# Altium footprint library Molex.PcbLib: 7 footprints
Each footprint in its own frame and in the unit in brackets; x right, y up, seen from the top. Pads: shape width x height; smd on the part's side, far side on the other; paste and mask are expansions set on the pad; w line width, h text height; cw(c..) or ccw(c..) is an arc to the next point about the centre after c.
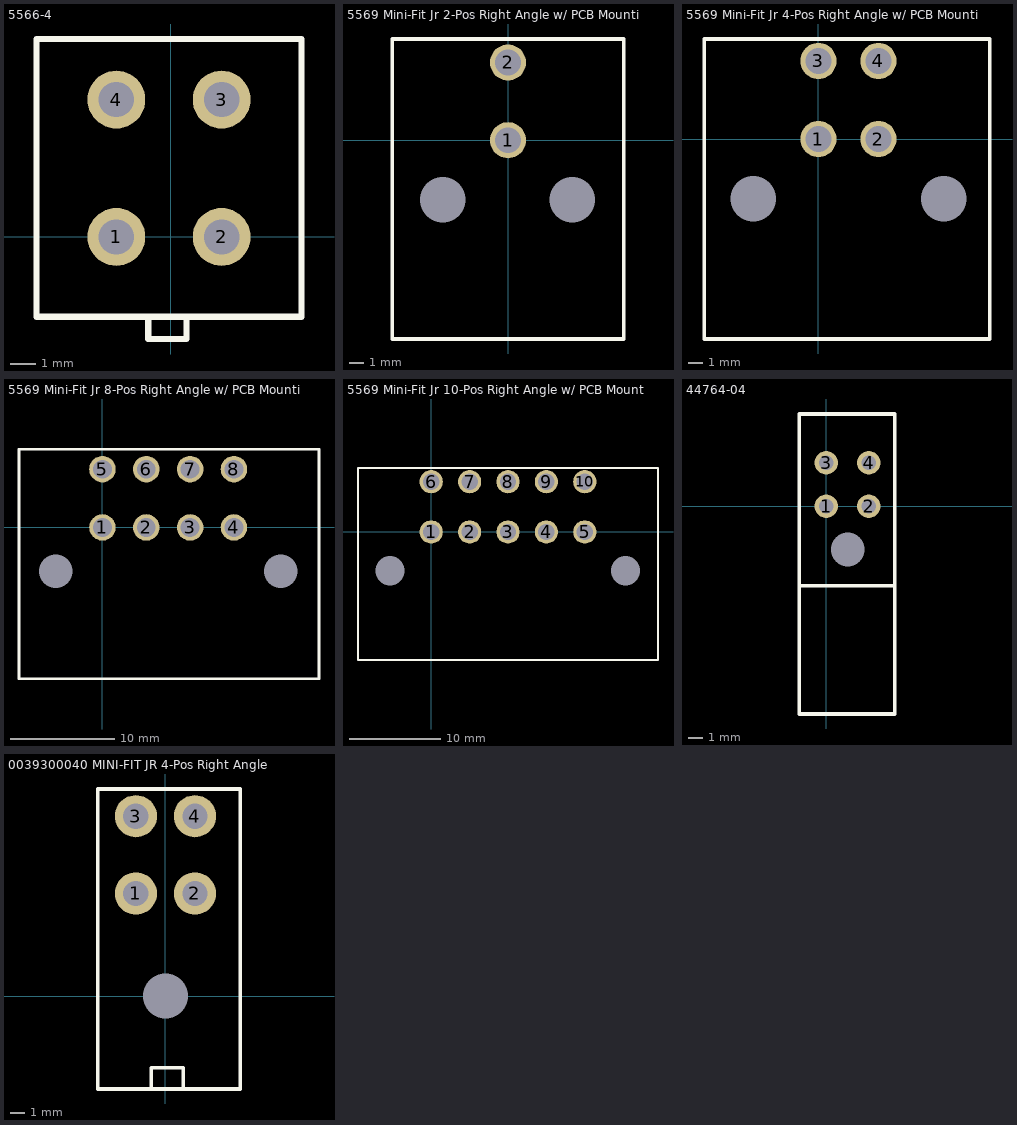
[diagram p0: the footprints below, top view; thin cyan lines are the x and y axes]

## 5566-4 [mm]
pads (4):
  round 2.3 hole 1.4: 1(-2.159,0) 2(2.032,0) 3(2.032,5.461) 4(-2.159,5.461)
Top Overlay:
  lines w0.254: -0.889,-3.175 -0.889,-4.064 0.635,-4.064 0.635,-3.302 ; -5.334,-3.175 -5.334,7.874 5.207,7.874 5.207,-3.175 -5.334,-3.175
3D body: height 12.8, standoff -3.5, extent -5.334,-3.253 5.066,7.747

## 5569 Mini-Fit Jr 2-Pos Right Angle w/ PCB Mounting Flange [mm] "4.20mm (.165\") Pitch Mini-Fit Jr.™ Header, Dual Row, Right Angle, with PCB Mounting Flange, 2 Circuits, PA Polyamide Nylon 6/6 94V-0, Tin (Sn) Plating"
pads (4):
  round 2.54 hole 1.8 unplated: 1(0,0) 2(0,5.461)
  round 0 hole 3.2 unplated: ""(-4.572,-4.191) ""(4.5,-4.2)
Top Overlay:
  lines w0.254: -8.128,-13.97 -8.128,7.112 8.128,7.112 8.128,-13.97 -8.128,-13.97
3D body: height 11.4, standoff -3.5, extent -7.675,-13.95 7.725,5.95

## 5569 Mini-Fit Jr 4-Pos Right Angle w/ PCB Mounting Flange [mm] "4.20mm (.165\") Pitch Mini-Fit Jr.™ Header, Dual Row, Right Angle, with PCB Mounting Flange, 4 Circuits, PA Polyamide Nylon 6/6 94V-0, Tin (Sn) Plating"
pads (6):
  round 2.54 hole 1.8 unplated: 1(0,0) 2(4.2,0) 3(0,5.461) 4(4.2,5.461)
  round 0 hole 3.2 unplated: ""(-4.572,-4.191) ""(8.763,-4.191)
Top Overlay:
  lines w0.254: -8,-14 12,-14 12,7 -8,7 -8,-14
3D body: height 11.4, standoff -3.5, extent -7.768,-13.931 11.832,5.969

## 5569 Mini-Fit Jr 8-Pos Right Angle w/ PCB Mounting Flange [mm] "4.20mm (.165\") Pitch Mini-Fit Jr.™ Header, Dual Row, Right Angle, with PCB Mounting Flange, 8 Circuits, PA Polyamide Nylon 6/6 94V-0, Tin (Sn) Plating"
pads (10):
  round 2.54 hole 1.8 unplated: 1(0,0) 2(4.2,0) 3(8.4,0) 4(12.6,0) 5(0,5.588) 6(4.2,5.588) 7(8.4,5.588) 8(12.6,5.588)
  round 0 hole 3.2 unplated: ""(-4.475,-4.2) ""(17.1,-4.2)
Top Overlay:
  lines w0.254: -8,-14.5 20.75,-14.5 20.75,7.5 -8,7.5 -8,-14.5
3D body: height 11.4, standoff -3.5, extent -7.65,-13.925 20.35,5.975

## 5569 Mini-Fit Jr 10-Pos Right Angle w/ PCB Mounting Flange [mm] "4.20mm (.165\") Pitch Mini-Fit Jr.™ Header, Dual Row, Right Angle, with PCB Mounting Flange, 10 Circuits, PA Polyamide Nylon 6/6 94V-0, Tin (Sn) Plating"
pads (12):
  round 2.54 hole 1.8 unplated: 1(0,0) 2(4.2,0) 3(8.4,0) 4(12.6,0) 5(16.8,0) 6(0,5.5) 7(4.2,5.5) 8(8.4,5.5) 9(12.6,5.5) 10(16.8,5.5)
  round 0 hole 3.2 unplated: ""(-4.5,-4.25) ""(21.25,-4.25)
Top Overlay:
  lines w0.254: -8,-14 24.8,-14 24.8,7 -8,7 -8,-14
3D body: height 11.4, standoff -3.5, extent -7.7,-13.85 24.5,6.05

## 44764-04 [mil] "3.00mm (.118\") Pitch Micro-Fit 3.0, BMI (TM) Receptacle Header, Dual Row, Right Angle, with Press-fit Plastic Pegs, 2.54µm (100µ\") Tin (Sn), 4 Circuits"
pads (5):
  round 65 hole 40: 1(0,0) 2(118,0) 3(0,120) 4(118,120)
  round 0 hole 93 unplated: ""(60,-120)
Top Overlay:
  lines w10: -75,-220 190,-220 ; -75,-575 -75,255 190,255 190,-575 -75,-575
3D body: height 406.72, standoff -146.28, extent -74,-573 190,253

## 0039300040 MINI-FIT JR 4-Pos Right Angle [mm]
pads (5):
  round 0 hole 3.2: 0(0,0)
  round 3 hole 1.8: 1(-2.1,7.3) 2(2.1,7.3) 3(-2.1,12.8) 4(2.1,12.8)
Top Overlay:
  lines w0.254: -1.016,-6.604 -1.016,-5.08 1.27,-5.08 1.27,-6.604 ; -4.826,-6.604 5.334,-6.604 5.334,14.732 -4.826,14.732 -4.826,-6.604
3D body: height 11.4, standoff -3.6, extent -4.801,-6.462 5.199,13.473